# Altium schematic symbol library DIODE,Schottky,30V,100mA,SMD.Schlib: 1 symbol
Pins are listed as number, name and electrical type; pins without a type are passive.

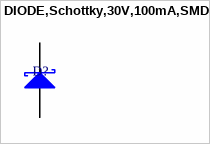
[diagram p0: symbol DIODE,Schottky,30V,100mA,SMD]

## DIODE,Schottky,30V,100mA,SMD
designator D?
pins: 1 K, 2 A